# Altium footprint library PcbLib1_2019.2.10.PcbLib: 87 footprints (part 2 of 6)
Each footprint in its own frame and in the unit in brackets; x right, y up, seen from the top. Pads: shape width x height; smd on the part's side, far side on the other; paste and mask are expansions set on the pad; w line width, h text height; cw(c..) or ccw(c..) is an arc to the next point about the centre after c.
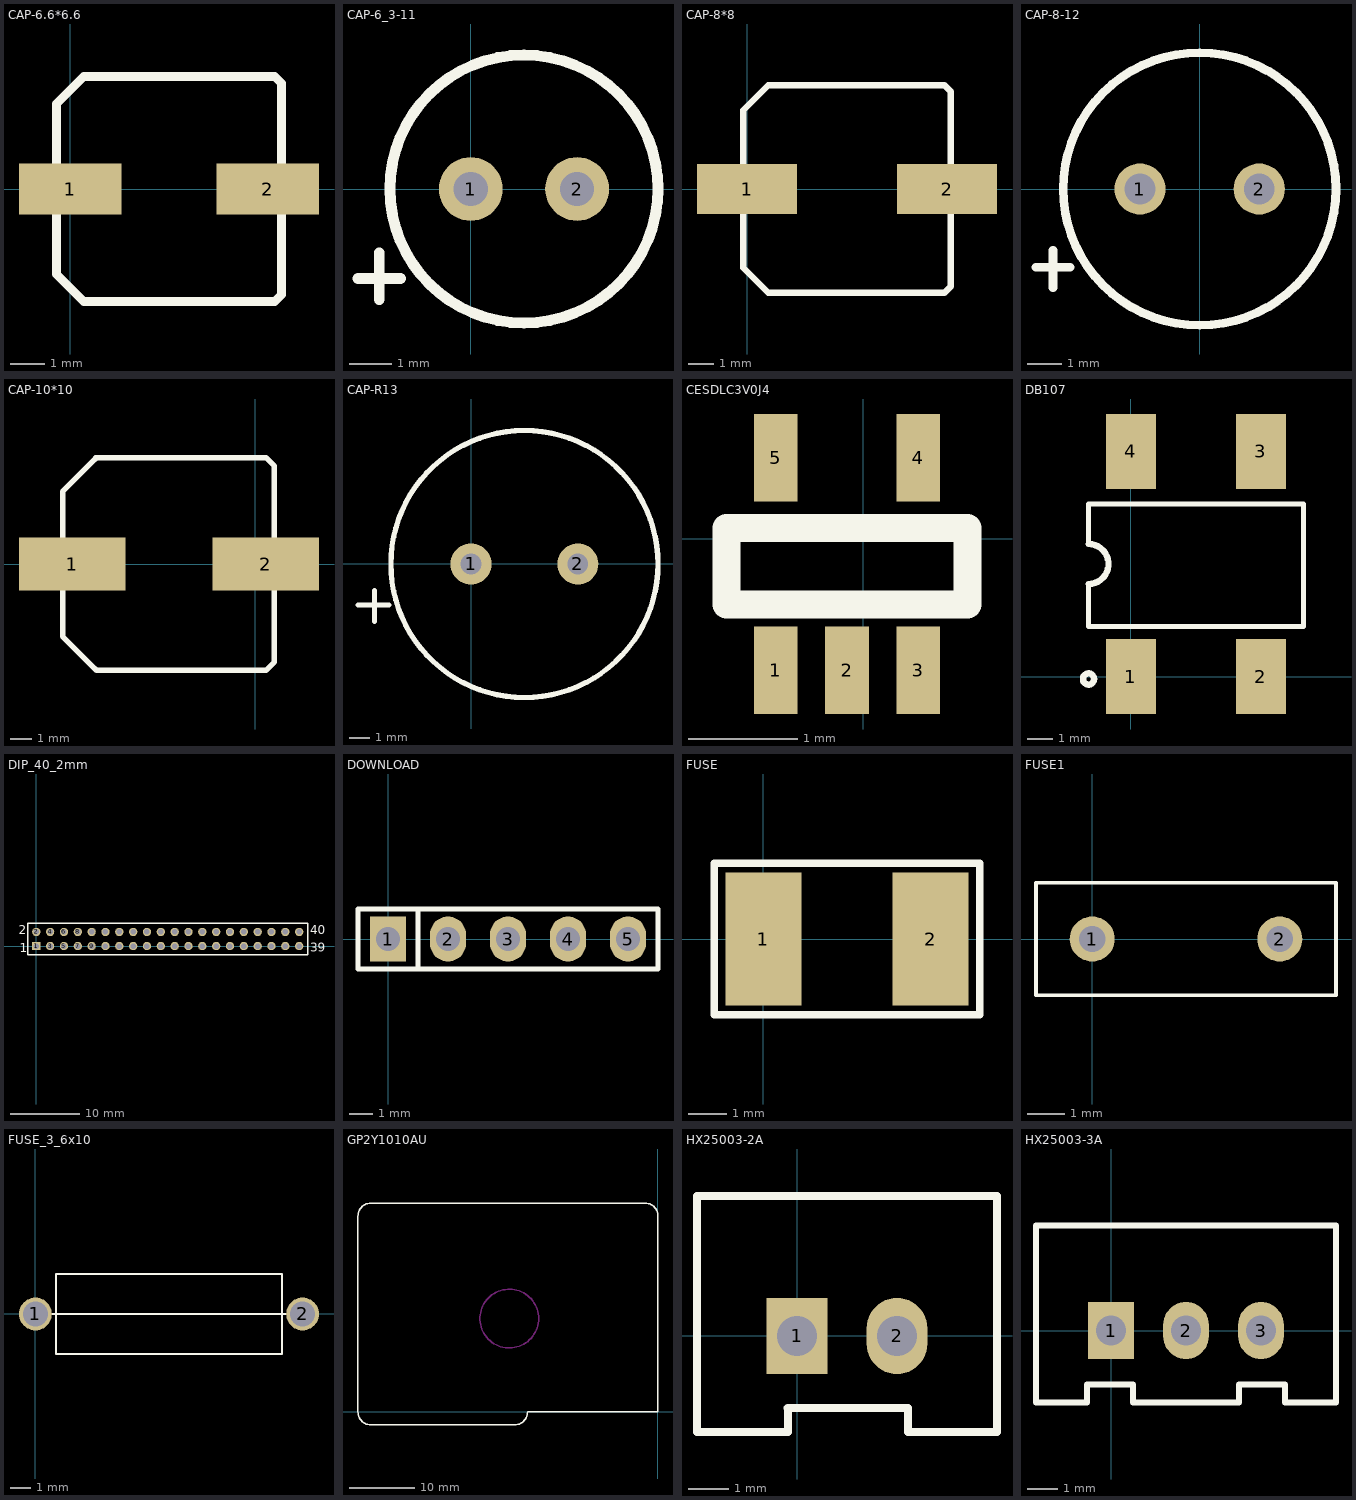
[diagram p1: the footprints below, top view; thin cyan lines are the x and y axes]

## CAP-6.6*6.6 [mm]
pads (2):
  rect 3x1.5 smd: 1(0,0) 2(5.8,0)
Top Overlay:
  lines w0.254: -0.4,-2.5 -0.4,2.5 0.4,3.3 6,3.3 6.2,3.1 6.2,-3.1 6,-3.3 0.4,-3.3 -0.4,-2.5

## CAP-6_3-11 [mm]
pads (2):
  round 1.5 hole 0.8: 1(0,0) 2(2.5,0)
Top Overlay:
  circle w0.254: c1.25,0 r3.15
  lines w0.254: -2.65,-2.1 -1.65,-2.1 ; -2.15,-2.6 -2.15,-1.5

## CAP-8*8 [mm]
pads (2):
  rect 4x2 smd: 1(0,0) 2(8,0)
Top Overlay:
  lines w0.254: -0.15,-3.15 0.85,-4.15 7.9,-4.15 8.15,-3.9 8.15,3.9 7.9,4.15 0.85,4.15 -0.15,3.15 -0.15,-3.15

## CAP-8-12 [mm]
pads (2):
  round 1.5 hole 0.9: 1(-1.75,0) 2(1.75,0)
Top Overlay:
  circle w0.254: c0,0 r4
  lines w0.254: -4.8,-2.3 -3.8,-2.3 ; -4.3,-2.9 -4.3,-1.8

## CAP-10*10 [mm]
pads (2):
  rect 5x2.5 smd: 1(-8.6,0) 2(0.5,0)
Top Overlay:
  lines w0.254: -7.5,-4.95 -9.05,-3.4 ; -7.5,5 -7.5,4.95 -9.05,3.4 ; -9.05,-3.4 -9.05,-1.65 -9.05,3.4 ; -9.05,-3.4 -7.45,-5 0.5,-5 0.9,-4.6 0.9,4.6 0.5,5 -7.45,5 -9.05,3.4

## CAP-R13 [mm]
pads (2):
  round 2 hole 1: 1(0,0) 2(5.2,0)
Top Overlay:
  circle w0.254: c2.6,0 r6.5
  lines w0.254: -5.5,-2 -4,-2 ; -4.7,-2.8 -4.7,-1.3

## CESDLC3V0J4 [mm]
pads (5):
  rect 0.4x0.8 smd: 1(-0.8,-1.2) 2(-0.15,-1.2) 3(0.5,-1.2) 4(0.5,0.74) 5(-0.8,0.74)
Top Overlay:
  lines w0.254: -1.25,-0.6 -1.25,0.1 0.95,0.1 0.95,-0.6 -1.25,-0.6

## DB107 [mm]
pads (4):
  rect 2x3 smd: 1(0,0) 2(5.2,0) 3(5.2,9) 4(0,9)
Top Overlay:
  circle w0.254: c-1.7,-0.1 r0.224
  lines w0.2: -1.7,3.7 -1.7,2 6.9,2 6.9,6.9 -1.7,6.9 -1.7,5.3
  lines w0.254: -1.7,3.7 ccw(c-1.7,4.5) -1.7,5.3

## DIP_40_2mm [mm]
pads (40):
  rect 1.2x1.2 hole 0.8: 1(0,0)
  round 1.2 hole 0.8: 2(0,2.04) 3(2,0) 4(2,2.04) 5(4,0) 6(4,2.04) 7(6,0) 8(6,2.04) 9(8,0) 10(8,2.04) 11(10,0) 12(10,2.04) 13(12,0) 14(12,2.04) 15(14,0) 16(14,2.04) 17(16,0) 18(16,2.04) 19(18,0) 20(18,2.04) 21(20,0) 22(20,2.04) 23(22,0) 24(22,2.04) 25(24,0) 26(24,2.04) 27(26,0) 28(26,2.04) 29(28,0) 30(28,2.04) 31(30,0) 32(30,2.04) 33(32,0) 34(32,2.04) 35(34,0) 36(34,2.04) 37(36,0) 38(36,2.04) 39(38,0) 40(38,2.04)
Top Overlay:
  lines w0.2: -1.27,-1.27 39.27,-1.27 39.27,3.31 -1.27,3.31 -1.27,-1.27
  text "1" at -2.4,-0.9 h1.27
  text "2" at -2.5,1.7 h1.27
  text "40" at 39.6,1.7 h1.27
  text "39" at 39.6,-0.8 h1.27

## DOWNLOAD [mm]
pads (5):
  rect 1.524x1.905 hole 1: 1(0,0)
  oval 1.524x1.905 hole 1: 2(2.54,0) 3(5.08,0) 4(7.62,0) 5(10.16,0)
Top Overlay:
  lines w0.203: 1.27,-1.27 1.27,1.27 ; -1.27,-1.27 -1.27,1.27 11.43,1.27 11.43,0 11.43,-1.27 -1.27,-1.27

## FUSE [mm]
pads (2):
  rect 2x3.5 smd: 1(0,0) 2(4.4,0)
Top Overlay:
  lines w0.2: -1.3,-2 5.7,-2 5.7,2 -1.3,2 -1.3,-2

## FUSE1 [mm] "thinking"
pads (2):
  round 1.2 hole 0.7: 1(0,0) 2(5,0)
Top Overlay:
  lines w0.1: -1.5,-1.5 6.5,-1.5 6.5,0 6.5,1.5 -1.5,1.5 -1.5,0 -1.5,-1.5

## FUSE_3_6x10 [mm]
pads (2):
  round 1.6 hole 1.2: 1(0,0) 2(13,0)
Top Overlay:
  lines w0.1: 0,0 13,0 ; 1,-1.95 1,1.95 12,1.95 12,-1.95 1,-1.95

## GP2Y1010AU [mm] "夏普粉尘模块，外形"
Top Overlay:
  lines w0.2: -46,0 ccw(c-44,0) -44,-2 -22,-2 ccw(c-22,0) -20,0 0,0 0,30 ccw(c-2,30) -2,32 -44,32 ccw(c-44,30) -46,30 -46,0
Keep-Out Layer:
  circle w0.2: c-22.8,14.3 r4.5

## HX25003-2A [mm]
pads (2):
  rect 1.524x1.905 hole 1: 1(0,0)
  oval 1.524x1.905 hole 1: 2(2.5,0)
Top Overlay:
  lines w0.2: -2.5,3.5 -2.5,-2.4 -0.23,-2.4 ; -0.23,-1.8 -0.23,-2.4 ; 2.77,-1.8 2.77,-2.3 2.77,-2.4 ; 5,3.5 5,-2.4 2.77,-2.4 ; -0.23,-2.4 -0.23,-2.4 ; 2.77,-2.4 2.77,-2.4
  lines w0.203: -2.5,3.5 5,3.5 ; -0.23,-1.8 2.77,-1.8

## HX25003-3A [mm]
pads (3):
  rect 1.524x1.905 hole 1: 1(0,0)
  oval 1.524x1.905 hole 1: 2(2.5,0) 3(5,0)
Top Overlay:
  lines w0.2: -2.5,3.5 -2.5,-2.4 -0.8,-2.4 -0.8,-1.8 ; 0.73,-1.8 0.73,-2.4 4.27,-2.4 4.27,-1.8 ; 5.02,3.5 7.5,3.5 7.5,-2.4 5.8,-2.4 5.8,-1.8
  lines w0.203: -2.5,3.5 5.02,3.5 ; -0.8,-1.8 0.73,-1.8 ; 4.27,-1.8 5.8,-1.8